# Altium schematic symbol library micro-harris.SCHLIB: 43 symbols
Pins are listed as number, name and electrical type; pins without a type are passive.

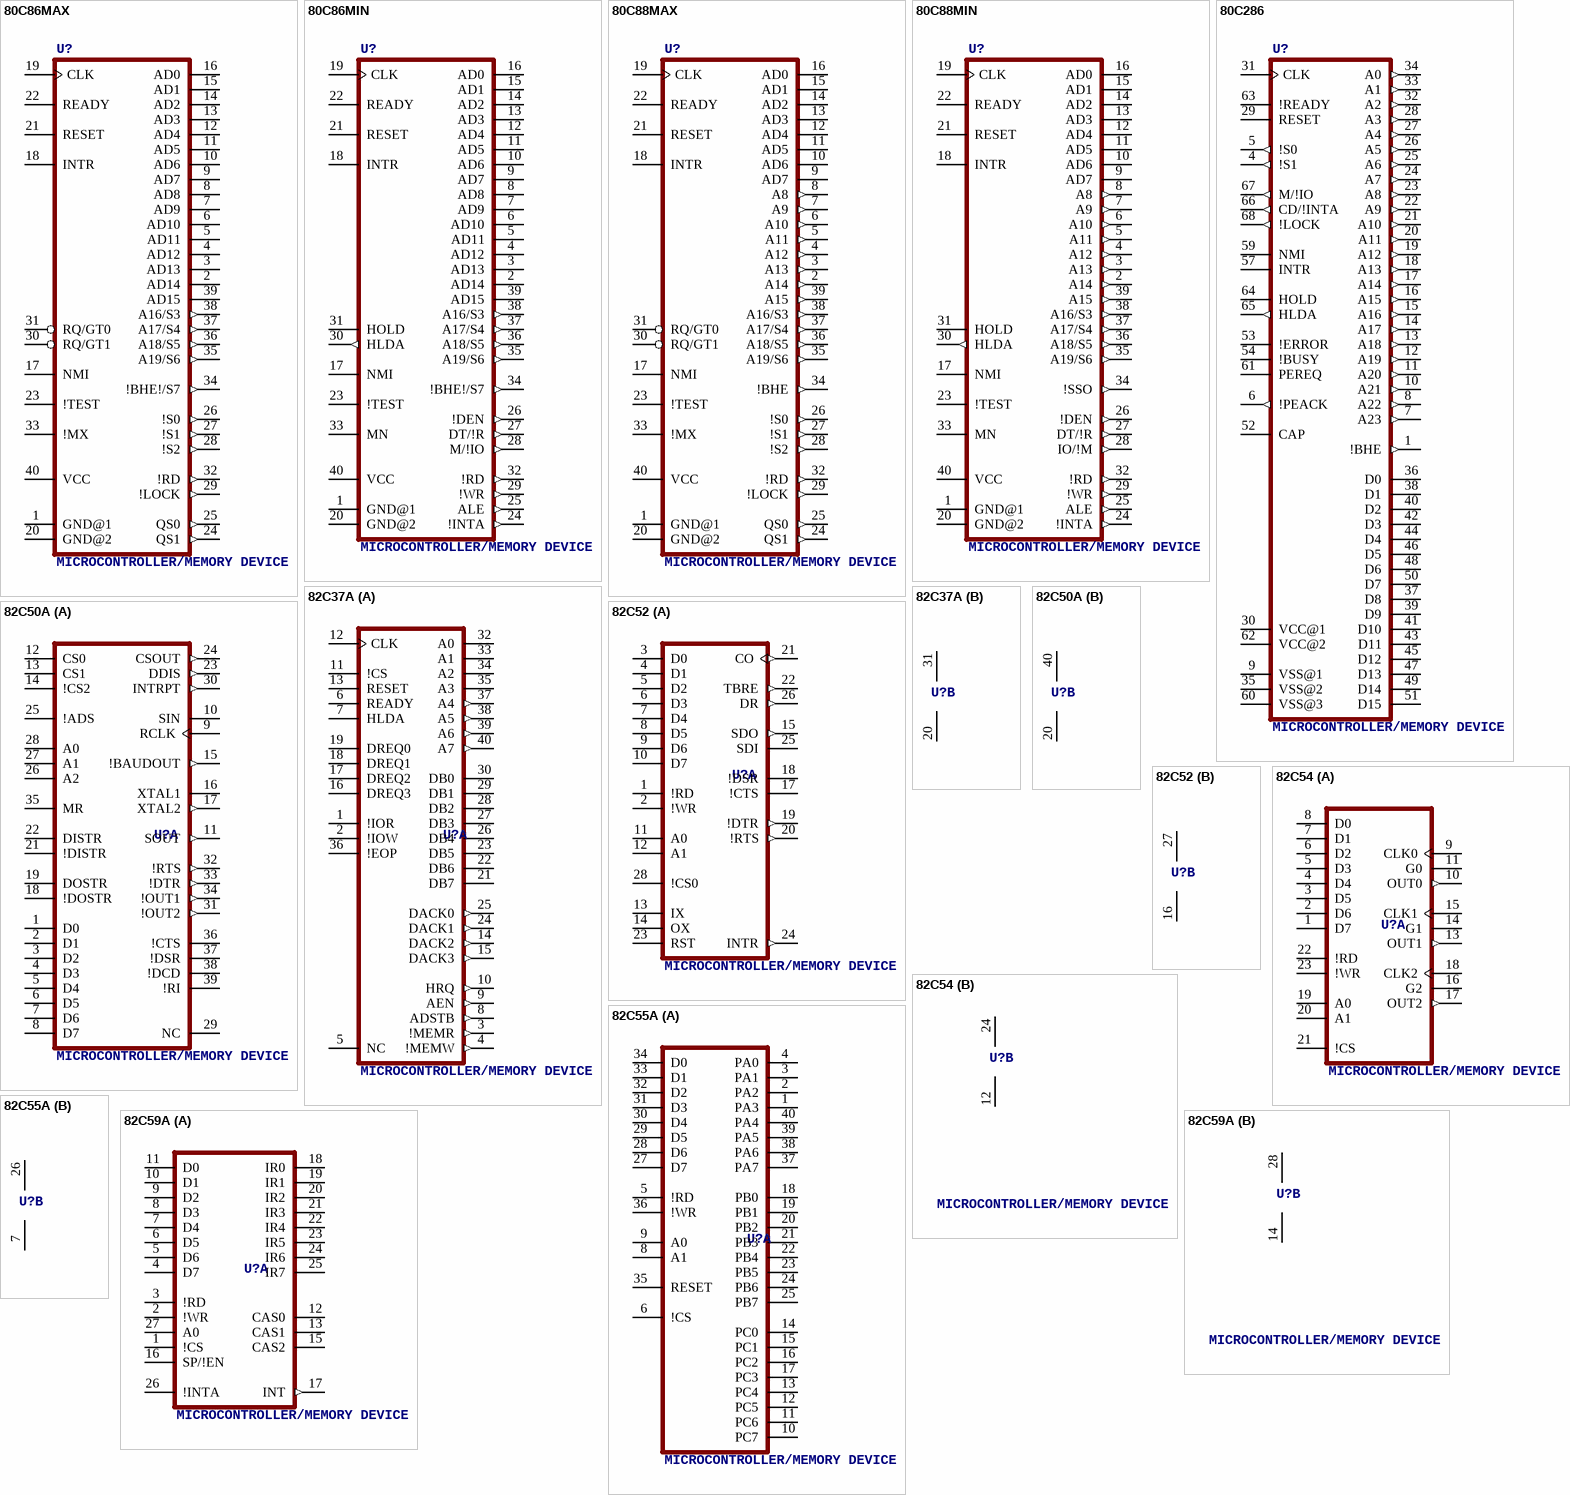
[diagram p0: symbols 80C86MAX to 82C59A]

## 80C86MAX
designator U?, comment MICROCONTROLLER/MEMORY DEVICE
MPN: CP80C86-2Z; OC_FARNELL: unknown; OC_NEWARK: 05M7145
footprint DIL40
pins: 1 GND@1 (power), 2 AD14, 3 AD13, 4 AD12, 5 AD11, 6 AD10, 7 AD9, 8 AD8, 9 AD7, 10 AD6, 11 AD5, 12 AD4, 13 AD3, 14 AD2, 15 AD1, 16 AD0, 17 NMI, 18 INTR, 19 CLK, 20 GND@2 (power), 21 RESET, 22 READY, 23 !TEST, 24 QS1 (out), 25 QS0 (out), 26 !S0 (out), 27 !S1 (out), 28 !S2 (out), 29 !LOCK (out), 30 RQ/GT1, 31 RQ/GT0, 32 !RD (out), 33 !MX, 34 !BHE!/S7 (out), 35 A19/S6 (out), 36 A18/S5 (out), 37 A17/S4 (out), 38 A16/S3 (out), 39 AD15, 40 VCC (power)

## 80C86MIN
designator U?, comment MICROCONTROLLER/MEMORY DEVICE
MPN: CP80C86-2; OC_FARNELL: unknown; OC_NEWARK: 16F4891
footprint DIL40
pins: 1 GND@1 (power), 2 AD14, 3 AD13, 4 AD12, 5 AD11, 6 AD10, 7 AD9, 8 AD8, 9 AD7, 10 AD6, 11 AD5, 12 AD4, 13 AD3, 14 AD2, 15 AD1, 16 AD0, 17 NMI, 18 INTR, 19 CLK, 20 GND@2 (power), 21 RESET, 22 READY, 23 !TEST, 24 !INTA (out), 25 ALE (out), 26 !DEN (out), 27 DT/!R (out), 28 M/!IO (out), 29 !WR (out), 30 HLDA (out), 31 HOLD, 32 !RD (out), 33 MN, 34 !BHE!/S7 (out), 35 A19/S6 (out), 36 A18/S5 (out), 37 A17/S4 (out), 38 A16/S3 (out), 39 AD15, 40 VCC (power)

## 80C88MAX
designator U?, comment MICROCONTROLLER/MEMORY DEVICE
MPN: IP80C88; MF: INTERSIL; OC_FARNELL: unknown; OC_NEWARK: 05B7353
footprint DIL40
pins: 1 GND@1 (power), 2 A14 (out), 3 A13 (out), 4 A12 (out), 5 A11 (out), 6 A10 (out), 7 A9 (out), 8 A8 (out), 9 AD7, 10 AD6, 11 AD5, 12 AD4, 13 AD3, 14 AD2, 15 AD1, 16 AD0, 17 NMI, 18 INTR, 19 CLK, 20 GND@2 (power), 21 RESET, 22 READY, 23 !TEST, 24 QS1 (out), 25 QS0 (out), 26 !S0 (out), 27 !S1 (out), 28 !S2 (out), 29 !LOCK (out), 30 RQ/GT1, 31 RQ/GT0, 32 !RD (out), 33 !MX, 34 !BHE (out), 35 A19/S6 (out), 36 A18/S5 (out), 37 A17/S4 (out), 38 A16/S3 (out), 39 A15 (out), 40 VCC (power)

## 80C88MIN
designator U?, comment MICROCONTROLLER/MEMORY DEVICE
MPN: IP80C88-2; MF: INTERSIL; OC_FARNELL: unknown; OC_NEWARK: 05B7354
footprint DIL40
pins: 1 GND@1 (power), 2 A14 (out), 3 A13 (out), 4 A12 (out), 5 A11 (out), 6 A10 (out), 7 A9 (out), 8 A8 (out), 9 AD7, 10 AD6, 11 AD5, 12 AD4, 13 AD3, 14 AD2, 15 AD1, 16 AD0, 17 NMI, 18 INTR, 19 CLK, 20 GND@2 (power), 21 RESET, 22 READY, 23 !TEST, 24 !INTA (out), 25 ALE (out), 26 !DEN (out), 27 DT/!R (out), 28 IO/!M (out), 29 !WR (out), 30 HLDA (out), 31 HOLD, 32 !RD (out), 33 MN, 34 !SSO (out), 35 A19/S6 (out), 36 A18/S5 (out), 37 A17/S4 (out), 38 A16/S3 (out), 39 A15 (out), 40 VCC (power)

## 80C286
designator U?, comment MICROCONTROLLER/MEMORY DEVICE
OC_FARNELL: unknown; OC_NEWARK: unknown
footprint INPGA68
pins: 1 !BHE (out), 4 !S1 (out), 5 !S0 (out), 6 !PEACK (out), 7 A23 (out), 8 A22 (out), 9 VSS@1 (power), 10 A21 (out), 11 A20 (out), 12 A19 (out), 13 A18 (out), 14 A17 (out), 15 A16 (out), 16 A15 (out), 17 A14 (out), 18 A13 (out), 19 A12 (out), 20 A11 (out), 21 A10 (out), 22 A9 (out), 23 A8 (out), 24 A7 (out), 25 A6 (out), 26 A5 (out), 27 A4 (out), 28 A3 (out), 29 RESET, 30 VCC@1 (power), 31 CLK, 32 A2 (out), 33 A1 (out), 34 A0 (out), 35 VSS@2 (power), 36 D0, 37 D8, 38 D1, 39 D9, 40 D2, 41 D10, 42 D3, 43 D11, 44 D4, 45 D12, 46 D5, 47 D13, 48 D6, 49 D14, 50 D7, 51 D15, 52 CAP, 53 !ERROR, 54 !BUSY, 57 INTR, 59 NMI, 60 VSS@3 (power), 61 PEREQ, 62 VCC@2 (power), 63 !READY, 64 HOLD, 65 HLDA (out), 66 CD/!INTA (out), 67 M/!IO (out), 68 !LOCK (out)

## 82C37A
designator U?, comment MICROCONTROLLER/MEMORY DEVICE
OC_FARNELL: unknown; OC_NEWARK: unknown
footprint DIL40
part A pins: 1 !IOR, 2 !IOW, 3 !MEMR (out), 4 !MEMW (out), 5 NC, 6 READY, 7 HLDA, 8 ADSTB (out), 9 AEN (out), 10 HRQ (out), 11 !CS, 12 CLK, 13 RESET, 14 DACK2 (out), 15 DACK3 (out), 16 DREQ3, 17 DREQ2, 18 DREQ1, 19 DREQ0, 21 DB7, 22 DB6, 23 DB5, 24 DACK1 (out), 25 DACK0 (out), 26 DB4, 27 DB3, 28 DB2, 29 DB1, 30 DB0, 32 A0, 33 A1, 34 A2, 35 A3, 36 !EOP, 37 A4 (out), 38 A5 (out), 39 A6 (out), 40 A7 (out)
part B pins: 20 GND (power), 31 VCC (power)

## 82C50A
designator U?, comment MICROCONTROLLER/MEMORY DEVICE
MPN: CP82C50A-5; OC_FARNELL: 527750; OC_NEWARK: 06F3286
footprint DIL40
part A pins: 1 D0, 2 D1, 3 D2, 4 D3, 5 D4, 6 D5, 7 D6, 8 D7, 9 RCLK, 10 SIN, 11 SOUT (out), 12 CS0, 13 CS1, 14 !CS2, 15 !BAUDOUT (out), 16 XTAL1, 17 XTAL2 (out), 18 !DOSTR, 19 DOSTR, 21 !DISTR, 22 DISTR, 23 DDIS (out), 24 CSOUT (out), 25 !ADS, 26 A2, 27 A1, 28 A0, 29 NC, 30 INTRPT (out), 31 !OUT2 (out), 32 !RTS (out), 33 !DTR (out), 34 !OUT1 (out), 35 MR, 36 !CTS, 37 !DSR, 38 !DCD, 39 !RI
part B pins: 20 GND (power), 40 VCC (power)

## 82C52
designator U?, comment MICROCONTROLLER/MEMORY DEVICE
MPN: IS82C52; MF: INTERSIL; OC_FARNELL: unknown; OC_NEWARK: 05B7416
footprint PLCC28
part A pins: 1 !RD, 2 !WR, 3 D0, 4 D1, 5 D2, 6 D3, 7 D4, 8 D5, 9 D6, 10 D7, 11 A0, 12 A1, 13 IX, 14 OX, 15 SDO (out), 17 !CTS, 18 !DSR, 19 !DTR (out), 20 !RTS (out), 21 CO (out), 22 TBRE (out), 23 RST, 24 INTR (out), 25 SDI, 26 DR (out), 28 !CS0
part B pins: 16 GND (power), 27 VCC (power)

## 82C54
designator U?, comment MICROCONTROLLER/MEMORY DEVICE
MPN: CP82C54Z; MF: INTERSIL; OC_FARNELL: 1018175; OC_NEWARK: 57K3037
footprint DIL24-6
part A pins: 1 D7, 2 D6, 3 D5, 4 D4, 5 D3, 6 D2, 7 D1, 8 D0, 9 CLK0, 10 OUT0 (out), 11 G0, 13 OUT1 (out), 14 G1, 15 CLK1, 16 G2, 17 OUT2 (out), 18 CLK2, 19 A0, 20 A1, 21 !CS, 22 !RD, 23 !WR
part B pins: 12 GND (power), 24 VCC (power)

## 82C55A
designator U?, comment MICROCONTROLLER/MEMORY DEVICE
MPN: CP82C55A-5; MF: INTERSIL; OC_FARNELL: 1018158; OC_NEWARK: 06F3290
footprint DIL40
part A pins: 1 PA3, 2 PA2, 3 PA1, 4 PA0, 5 !RD, 6 !CS, 8 A1, 9 A0, 10 PC7, 11 PC6, 12 PC5, 13 PC4, 14 PC0, 15 PC1, 16 PC2, 17 PC3, 18 PB0, 19 PB1, 20 PB2, 21 PB3, 22 PB4, 23 PB5, 24 PB6, 25 PB7, 27 D7, 28 D6, 29 D5, 30 D4, 31 D3, 32 D2, 33 D1, 34 D0, 35 RESET, 36 !WR, 37 PA7, 38 PA6, 39 PA5, 40 PA4
part B pins: 7 GND (power), 26 VCC (power)

## 82C59A
designator U?, comment MICROCONTROLLER/MEMORY DEVICE
MPN: IS82C59A; MF: INTERSIL; OC_FARNELL: unknown; OC_NEWARK: 05B7426
footprint PLCC28
part A pins: 1 !CS, 2 !WR, 3 !RD, 4 D7, 5 D6, 6 D5, 7 D4, 8 D3, 9 D2, 10 D1, 11 D0, 12 CAS0, 13 CAS1, 15 CAS2, 16 SP/!EN, 17 INT (out), 18 IR0, 19 IR1, 20 IR2, 21 IR3, 22 IR4, 23 IR5, 24 IR6, 25 IR7, 26 !INTA, 27 A0
part B pins: 14 GND (power), 28 VCC (power)

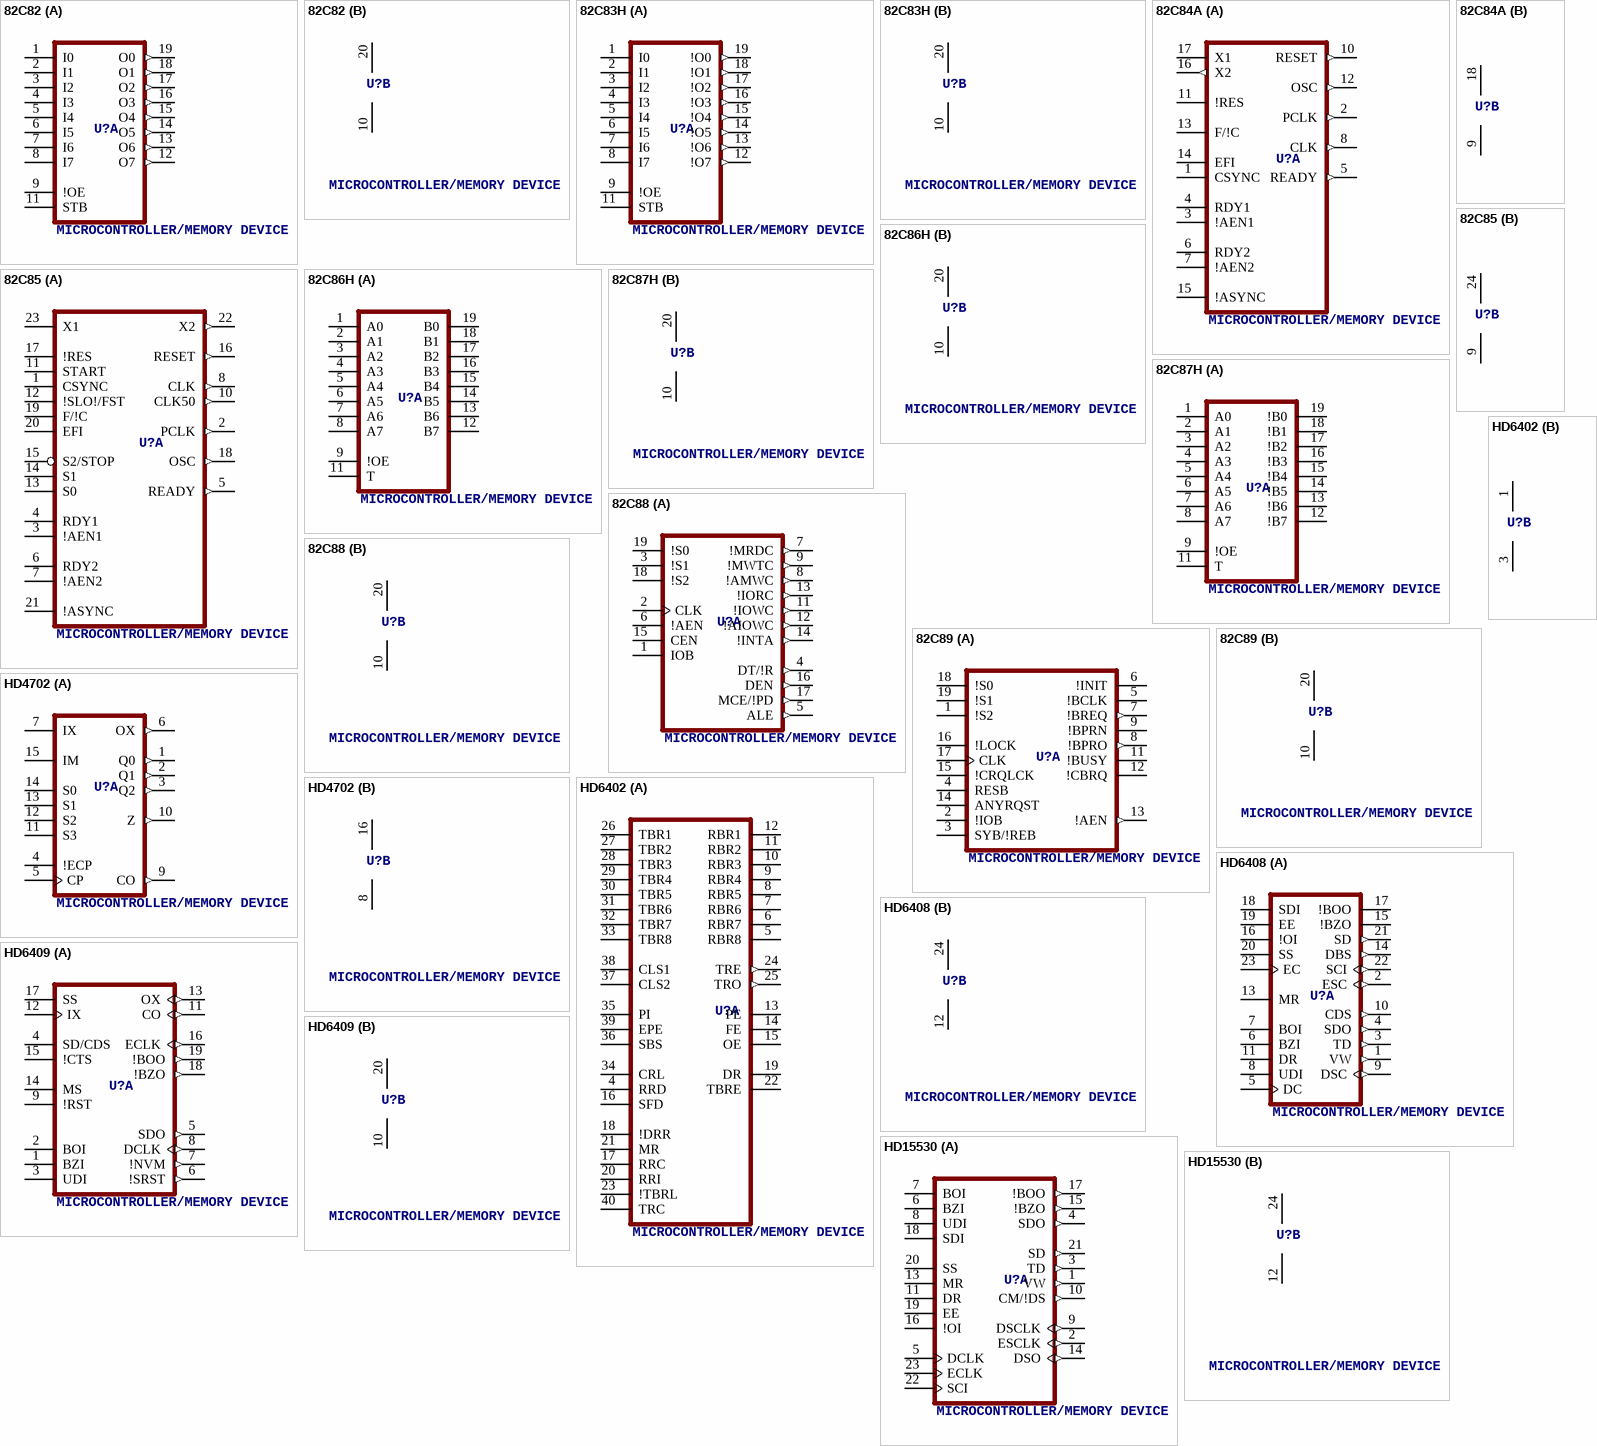
[diagram p1: symbols 82C82 to HD15530]

## 82C82
designator U?, comment MICROCONTROLLER/MEMORY DEVICE
MPN: ID82C82; MF: INTERSIL; OC_FARNELL: unknown; OC_NEWARK: 05B7334
footprint DIL20
part A pins: 1 I0, 2 I1, 3 I2, 4 I3, 5 I4, 6 I5, 7 I6, 8 I7, 9 !OE, 11 STB, 12 O7 (out), 13 O6 (out), 14 O5 (out), 15 O4 (out), 16 O3 (out), 17 O2 (out), 18 O1 (out), 19 O0 (out)
part B pins: 10 GND (power), 20 VCC (power)

## 82C83H
designator U?, comment MICROCONTROLLER/MEMORY DEVICE
OC_FARNELL: unknown; OC_NEWARK: unknown
footprint DIL20
part A pins: 1 I0, 2 I1, 3 I2, 4 I3, 5 I4, 6 I5, 7 I6, 8 I7, 9 !OE, 11 STB, 12 !O7 (out), 13 !O6 (out), 14 !O5 (out), 15 !O4 (out), 16 !O3 (out), 17 !O2 (out), 18 !O1 (out), 19 !O0 (out)
part B pins: 10 GND (power), 20 VCC (power)

## 82C84A
designator U?, comment MICROCONTROLLER/MEMORY DEVICE
MPN: CP82C84AZ; MF: INTERSIL; OC_FARNELL: 1216116; OC_NEWARK: 79K6037
footprint DIL18
part A pins: 1 CSYNC, 2 PCLK (out), 3 !AEN1, 4 RDY1, 5 READY (out), 6 RDY2, 7 !AEN2, 8 CLK (out), 10 RESET (out), 11 !RES, 12 OSC (out), 13 F/!C, 14 EFI, 15 !ASYNC, 16 X2 (out), 17 X1
part B pins: 9 GND (power), 18 VCC (power)

## 82C85
designator U?, comment MICROCONTROLLER/MEMORY DEVICE
OC_FARNELL: unknown; OC_NEWARK: unknown
footprint DIL24-3
part A pins: 1 CSYNC, 2 PCLK (out), 3 !AEN1, 4 RDY1, 5 READY (out), 6 RDY2, 7 !AEN2, 8 CLK (out), 10 CLK50 (out), 11 START, 12 !SLO!/FST, 13 S0, 14 S1, 15 S2/STOP, 16 RESET (out), 17 !RES, 18 OSC (out), 19 F/!C, 20 EFI, 21 !ASYNC, 22 X2 (out), 23 X1
part B pins: 9 GND (power), 24 VCC (power)

## 82C86H
designator U?, comment MICROCONTROLLER/MEMORY DEVICE
MPN: ID82C86H; MF: INTERSIL; OC_FARNELL: unknown; OC_NEWARK: 05B7338
footprint DIL20
part A pins: 1 A0, 2 A1, 3 A2, 4 A3, 5 A4, 6 A5, 7 A6, 8 A7, 9 !OE, 11 T, 12 B7, 13 B6, 14 B5, 15 B4, 16 B3, 17 B2, 18 B1, 19 B0
part B pins: 10 GND (power), 20 VCC (power)

## 82C87H
designator U?, comment MICROCONTROLLER/MEMORY DEVICE
OC_FARNELL: unknown; OC_NEWARK: unknown
footprint DIL20
part A pins: 1 A0, 2 A1, 3 A2, 4 A3, 5 A4, 6 A5, 7 A6, 8 A7, 9 !OE, 11 T, 12 !B7, 13 !B6, 14 !B5, 15 !B4, 16 !B3, 17 !B2, 18 !B1, 19 !B0
part B pins: 10 GND (power), 20 VCC (power)

## 82C88
designator U?, comment MICROCONTROLLER/MEMORY DEVICE
MPN: CP82C88; MF: INTERSIL; OC_FARNELL: unknown; OC_NEWARK: 06F3294
footprint DIL20
part A pins: 1 IOB, 2 CLK, 3 !S1, 4 DT/!R (out), 5 ALE (out), 6 !AEN, 7 !MRDC (out), 8 !AMWC (out), 9 !MWTC (out), 11 !IOWC (out), 12 !AIOWC (out), 13 !IORC (out), 14 !INTA (out), 15 CEN, 16 DEN (out), 17 MCE/!PD (out), 18 !S2, 19 !S0
part B pins: 10 GND (power), 20 VCC (power)

## 82C89
designator U?, comment MICROCONTROLLER/MEMORY DEVICE
MPN: CP82C89; MF: INTERSIL; OC_FARNELL: unknown; OC_NEWARK: 16F4897
footprint DIL20
part A pins: 1 !S2, 2 !IOB, 3 SYB/!REB, 4 RESB, 5 !BCLK, 6 !INIT, 7 !BREQ (out), 8 !BPRO (out), 9 !BPRN, 11 !BUSY, 12 !CBRQ, 13 !AEN (out), 14 ANYRQST, 15 !CRQLCK, 16 !LOCK, 17 CLK, 18 !S0, 19 !S1
part B pins: 10 GND (power), 20 VCC (power)

## HD4702
designator U?, comment MICROCONTROLLER/MEMORY DEVICE
OC_FARNELL: unknown; OC_NEWARK: unknown
footprint DIL16
part A pins: 1 Q0 (out), 2 Q1 (out), 3 Q2 (out), 4 !ECP, 5 CP, 6 OX (out), 7 IX, 9 CO (out), 10 Z (out), 11 S3, 12 S2, 13 S1, 14 S0, 15 IM
part B pins: 8 GND (power), 16 VCC (power)

## HD6402
designator U?, comment MICROCONTROLLER/MEMORY DEVICE
OC_FARNELL: unknown; OC_NEWARK: unknown
footprint DIL40
part A pins: 4 RRD, 5 RBR8 (hiz), 6 RBR7 (hiz), 7 RBR6 (hiz), 8 RBR5 (hiz), 9 RBR4 (hiz), 10 RBR3 (hiz), 11 RBR2 (hiz), 12 RBR1 (hiz), 13 PE (hiz), 14 FE (hiz), 15 OE (hiz), 16 SFD, 17 RRC, 18 !DRR, 19 DR (hiz), 20 RRI, 21 MR, 22 TBRE (hiz), 23 !TBRL, 24 TRE (out), 25 TRO (out), 26 TBR1, 27 TBR2, 28 TBR3, 29 TBR4, 30 TBR5, 31 TBR6, 32 TBR7, 33 TBR8, 34 CRL, 35 PI, 36 SBS, 37 CLS2, 38 CLS1, 39 EPE, 40 TRC
part B pins: 1 VCC (power), 3 GND (power)

## HD6408
designator U?, comment MICROCONTROLLER/MEMORY DEVICE
OC_FARNELL: unknown; OC_NEWARK: unknown
footprint DIL24-6
part A pins: 1 VW (out), 2 ESC (out), 3 TD (out), 4 SDO (out), 5 DC, 6 BZI, 7 BOI, 8 UDI, 9 DSC (out), 10 CDS (out), 11 DR, 13 MR, 14 DBS (out), 15 !BZO (hiz), 16 !OI, 17 !BOO (hiz), 18 SDI, 19 EE, 20 SS, 21 SD (out), 22 SCI (out), 23 EC
part B pins: 12 GND (power), 24 VCC (power)

## HD6409
designator U?, comment MICROCONTROLLER/MEMORY DEVICE
OC_FARNELL: unknown; OC_NEWARK: unknown
footprint DIL20
part A pins: 1 BZI, 2 BOI, 3 UDI, 4 SD/CDS, 5 SDO (out), 6 !SRST (out), 7 !NVM (out), 8 DCLK (out), 9 !RST, 11 CO (out), 12 IX, 13 OX (out), 14 MS, 15 !CTS, 16 ECLK (out), 17 SS, 18 !BZO (out), 19 !BOO (out)
part B pins: 10 GND (power), 20 VCC (power)

## HD15530
designator U?, comment MICROCONTROLLER/MEMORY DEVICE
OC_FARNELL: unknown; OC_NEWARK: unknown
footprint DIL24-6
part A pins: 1 VW (out), 2 ESCLK (out), 3 TD (out), 4 SDO (out), 5 DCLK, 6 BZI, 7 BOI, 8 UDI, 9 DSCLK (out), 10 CM/!DS (out), 11 DR, 13 MR, 14 DSO (out), 15 !BZO (out), 16 !OI, 17 !BOO (out), 18 SDI, 19 EE, 20 SS, 21 SD (out), 22 SCI, 23 ECLK
part B pins: 12 GND (power), 24 VCC (power)

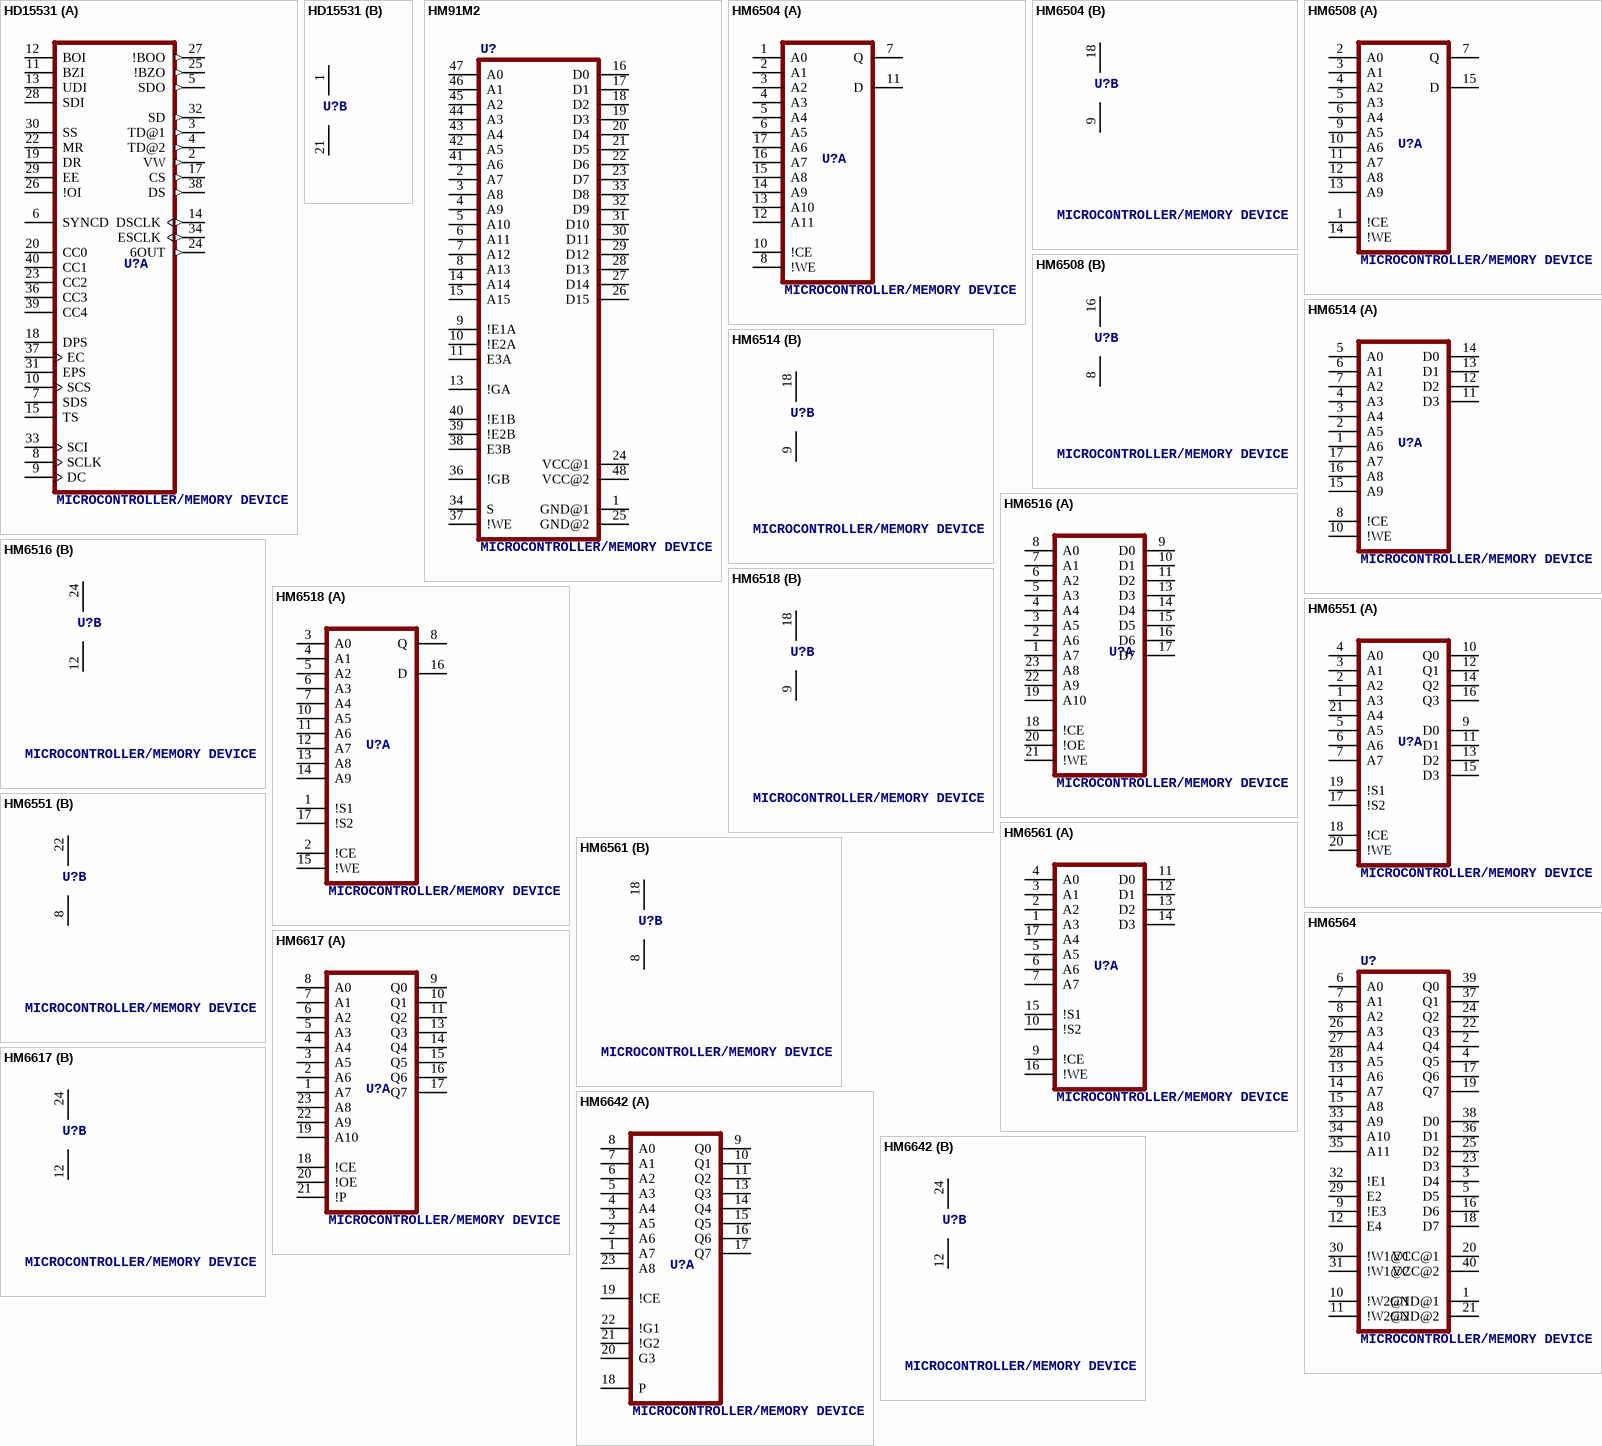
[diagram p2: symbols HD15531 to HM6642]

## HD15531
designator U?, comment MICROCONTROLLER/MEMORY DEVICE
OC_FARNELL: unknown; OC_NEWARK: unknown
footprint DIL40
part A pins: 2 VW (out), 3 TD@1 (out), 4 TD@2 (out), 5 SDO (out), 6 SYNCD, 7 SDS, 8 SCLK, 9 DC, 10 SCS, 11 BZI, 12 BOI, 13 UDI, 14 DSCLK (out), 15 TS, 17 CS (out), 18 DPS, 19 DR, 20 CC0, 22 MR, 23 CC2, 24 6OUT (out), 25 !BZO (out), 26 !OI, 27 !BOO (out), 28 SDI, 29 EE, 30 SS, 31 EPS, 32 SD (out), 33 SCI, 34 ESCLK (out), 36 CC3, 37 EC, 38 DS (out), 39 CC4, 40 CC1
part B pins: 1 VCC (power), 21 GND (power)

## HM91M2
designator U?, comment MICROCONTROLLER/MEMORY DEVICE
OC_FARNELL: unknown; OC_NEWARK: unknown
footprint DIL48
pins: 1 GND@1 (power), 2 A7, 3 A8, 4 A9, 5 A10, 6 A11, 7 A12, 8 A13, 9 !E1A, 10 !E2A, 11 E3A, 13 !GA, 14 A14, 15 A15, 16 D0, 17 D1, 18 D2, 19 D3, 20 D4, 21 D5, 22 D6, 23 D7, 24 VCC@1 (power), 25 GND@2 (power), 26 D15, 27 D14, 28 D13, 29 D12, 30 D11, 31 D10, 32 D9, 33 D8, 34 S, 36 !GB, 37 !WE, 38 E3B, 39 !E2B, 40 !E1B, 41 A6, 42 A5, 43 A4, 44 A3, 45 A2, 46 A1, 47 A0, 48 VCC@2 (power)

## HM6504
designator U?, comment MICROCONTROLLER/MEMORY DEVICE
OC_FARNELL: unknown; OC_NEWARK: unknown
footprint DIL18
part A pins: 1 A0, 2 A1, 3 A2, 4 A3, 5 A4, 6 A5, 7 Q (hiz), 8 !WE, 10 !CE, 11 D, 12 A11, 13 A10, 14 A9, 15 A8, 16 A7, 17 A6
part B pins: 9 GND (power), 18 VCC (power)

## HM6508
designator U?, comment MICROCONTROLLER/MEMORY DEVICE
OC_FARNELL: unknown; OC_NEWARK: unknown
footprint DIL16
part A pins: 1 !CE, 2 A0, 3 A1, 4 A2, 5 A3, 6 A4, 7 Q (hiz), 9 A5, 10 A6, 11 A7, 12 A8, 13 A9, 14 !WE, 15 D
part B pins: 8 GND (power), 16 VCC (power)

## HM6514
designator U?, comment MICROCONTROLLER/MEMORY DEVICE
OC_FARNELL: unknown; OC_NEWARK: unknown
footprint DIL18
part A pins: 1 A6, 2 A5, 3 A4, 4 A3, 5 A0, 6 A1, 7 A2, 8 !CE, 10 !WE, 11 D3, 12 D2, 13 D1, 14 D0, 15 A9, 16 A8, 17 A7
part B pins: 9 GND (power), 18 VCC (power)

## HM6516
designator U?, comment MICROCONTROLLER/MEMORY DEVICE
OC_FARNELL: unknown; OC_NEWARK: unknown
footprint DIL24-6
part A pins: 1 A7, 2 A6, 3 A5, 4 A4, 5 A3, 6 A2, 7 A1, 8 A0, 9 D0, 10 D1, 11 D2, 13 D3, 14 D4, 15 D5, 16 D6, 17 D7, 18 !CE, 19 A10, 20 !OE, 21 !WE, 22 A9, 23 A8
part B pins: 12 GND (power), 24 VCC (power)

## HM6518
designator U?, comment MICROCONTROLLER/MEMORY DEVICE
OC_FARNELL: unknown; OC_NEWARK: unknown
footprint DIL18
part A pins: 1 !S1, 2 !CE, 3 A0, 4 A1, 5 A2, 6 A3, 7 A4, 8 Q (hiz), 10 A5, 11 A6, 12 A7, 13 A8, 14 A9, 15 !WE, 16 D, 17 !S2
part B pins: 9 GND (power), 18 VCC (power)

## HM6551
designator U?, comment MICROCONTROLLER/MEMORY DEVICE
OC_FARNELL: unknown; OC_NEWARK: unknown
footprint DIL22-3
part A pins: 1 A3, 2 A2, 3 A1, 4 A0, 5 A5, 6 A6, 7 A7, 9 D0, 10 Q0 (hiz), 11 D1, 12 Q1 (hiz), 13 D2, 14 Q2 (hiz), 15 D3, 16 Q3 (hiz), 17 !S2, 18 !CE, 19 !S1, 20 !WE, 21 A4
part B pins: 8 GND (power), 22 VCC (power)

## HM6561
designator U?, comment MICROCONTROLLER/MEMORY DEVICE
OC_FARNELL: unknown; OC_NEWARK: unknown
footprint DIL18
part A pins: 1 A3, 2 A2, 3 A1, 4 A0, 5 A5, 6 A6, 7 A7, 9 !CE, 10 !S2, 11 D0, 12 D1, 13 D2, 14 D3, 15 !S1, 16 !WE, 17 A4
part B pins: 8 GND (power), 18 VCC (power)

## HM6564
designator U?, comment MICROCONTROLLER/MEMORY DEVICE
OC_FARNELL: unknown; OC_NEWARK: unknown
footprint DIL40
pins: 1 GND@1 (power), 2 Q4 (hiz), 3 D4, 4 Q5 (hiz), 5 D5, 6 A0, 7 A1, 8 A2, 9 !E3, 10 !W2@1, 11 !W2@2, 12 E4, 13 A6, 14 A7, 15 A8, 16 D6, 17 Q6 (hiz), 18 D7, 19 Q7 (hiz), 20 VCC@1 (power), 21 GND@2 (power), 22 Q3 (hiz), 23 D3, 24 Q2 (hiz), 25 D2, 26 A3, 27 A4, 28 A5, 29 E2, 30 !W1@1, 31 !W1@2, 32 !E1, 33 A9, 34 A10, 35 A11, 36 D1, 37 Q1 (hiz), 38 D0, 39 Q0 (hiz), 40 VCC@2 (power)

## HM6617
designator U?, comment MICROCONTROLLER/MEMORY DEVICE
OC_FARNELL: unknown; OC_NEWARK: unknown
footprint DIL24-3
part A pins: 1 A7, 2 A6, 3 A5, 4 A4, 5 A3, 6 A2, 7 A1, 8 A0, 9 Q0 (hiz), 10 Q1 (hiz), 11 Q2 (hiz), 13 Q3 (hiz), 14 Q4 (hiz), 15 Q5 (hiz), 16 Q6 (hiz), 17 Q7 (hiz), 18 !CE, 19 A10, 20 !OE, 21 !P, 22 A9, 23 A8
part B pins: 12 GND (power), 24 VCC (power)

## HM6642
designator U?, comment MICROCONTROLLER/MEMORY DEVICE
OC_FARNELL: unknown; OC_NEWARK: unknown
footprint DIL24-3
part A pins: 1 A7, 2 A6, 3 A5, 4 A4, 5 A3, 6 A2, 7 A1, 8 A0, 9 Q0 (hiz), 10 Q1 (hiz), 11 Q2 (hiz), 13 Q3 (hiz), 14 Q4 (hiz), 15 Q5 (hiz), 16 Q6 (hiz), 17 Q7 (hiz), 18 P, 19 !CE, 20 G3, 21 !G2, 22 !G1, 23 A8
part B pins: 12 GND (power), 24 VCC (power)

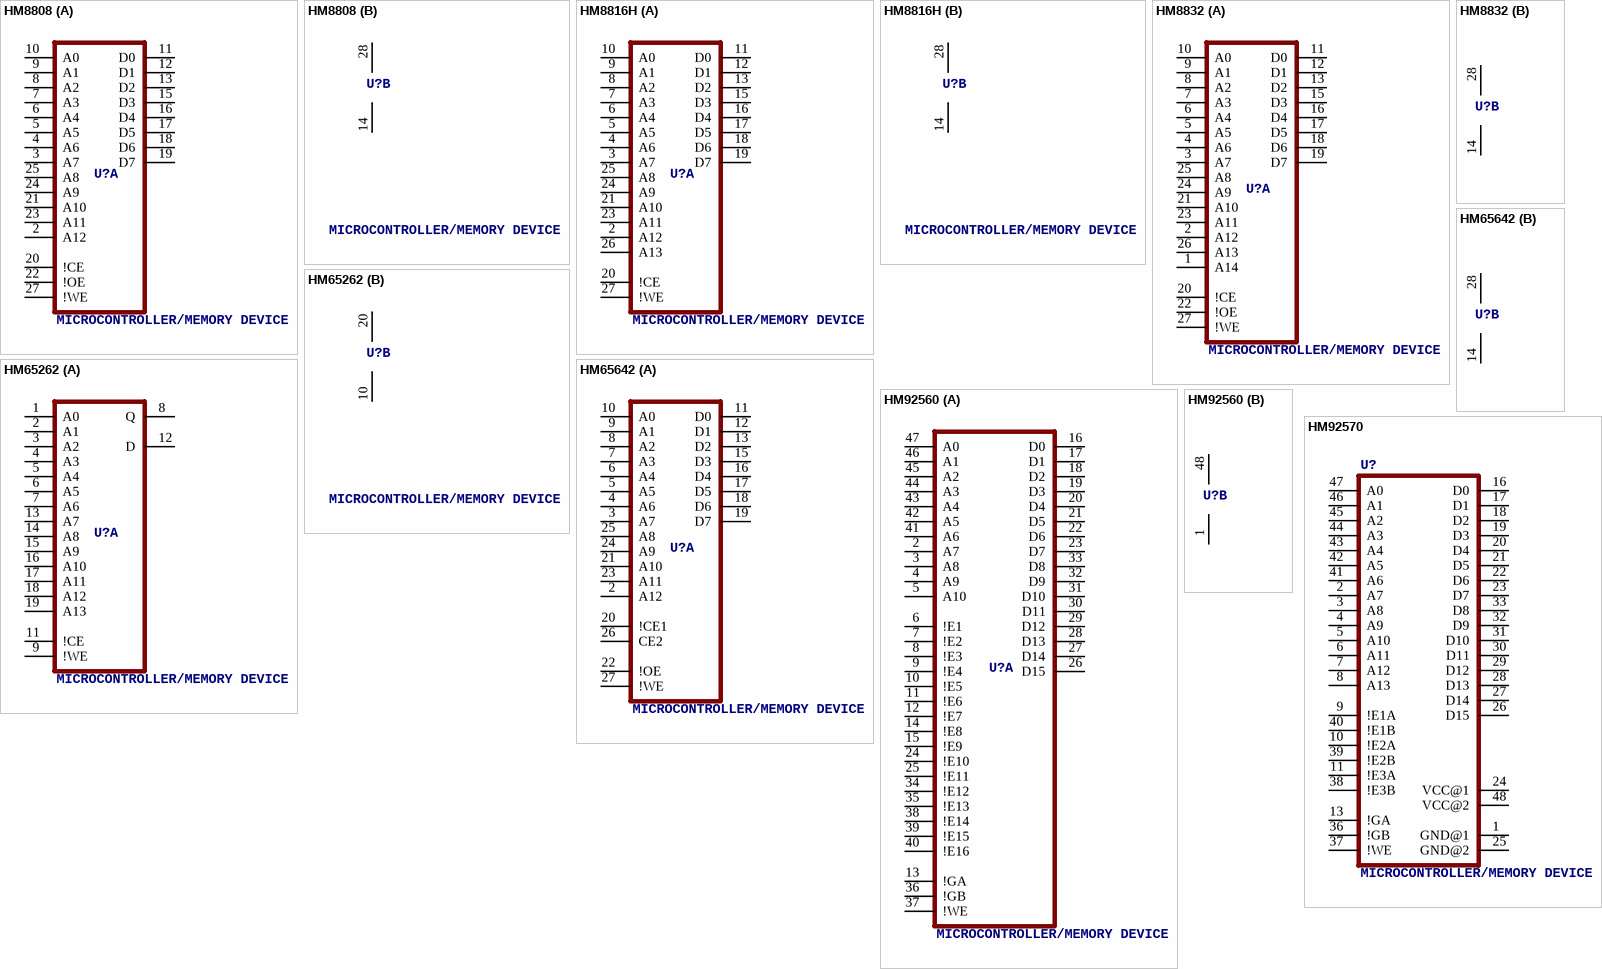
[diagram p3: symbols HM8808 to HM92570]

## HM8808
designator U?, comment MICROCONTROLLER/MEMORY DEVICE
OC_FARNELL: unknown; OC_NEWARK: unknown
footprint DIL28-6
part A pins: 2 A12, 3 A7, 4 A6, 5 A5, 6 A4, 7 A3, 8 A2, 9 A1, 10 A0, 11 D0, 12 D1, 13 D2, 15 D3, 16 D4, 17 D5, 18 D6, 19 D7, 20 !CE, 21 A10, 22 !OE, 23 A11, 24 A9, 25 A8, 27 !WE
part B pins: 14 GND (power), 28 VCC (power)

## HM8816H
designator U?, comment MICROCONTROLLER/MEMORY DEVICE
OC_FARNELL: unknown; OC_NEWARK: unknown
footprint DIL28-6
part A pins: 2 A12, 3 A7, 4 A6, 5 A5, 6 A4, 7 A3, 8 A2, 9 A1, 10 A0, 11 D0, 12 D1, 13 D2, 15 D3, 16 D4, 17 D5, 18 D6, 19 D7, 20 !CE, 21 A10, 23 A11, 24 A9, 25 A8, 26 A13, 27 !WE
part B pins: 14 GND (power), 28 VCC (power)

## HM8832
designator U?, comment MICROCONTROLLER/MEMORY DEVICE
OC_FARNELL: unknown; OC_NEWARK: unknown
footprint DIL28-6
part A pins: 1 A14, 2 A12, 3 A7, 4 A6, 5 A5, 6 A4, 7 A3, 8 A2, 9 A1, 10 A0, 11 D0, 12 D1, 13 D2, 15 D3, 16 D4, 17 D5, 18 D6, 19 D7, 20 !CE, 21 A10, 22 !OE, 23 A11, 24 A9, 25 A8, 26 A13, 27 !WE
part B pins: 14 GND (power), 28 VCC (power)

## HM65262
designator U?, comment MICROCONTROLLER/MEMORY DEVICE
OC_FARNELL: unknown; OC_NEWARK: unknown
footprint DIL20
part A pins: 1 A0, 2 A1, 3 A2, 4 A3, 5 A4, 6 A5, 7 A6, 8 Q (hiz), 9 !WE, 11 !CE, 12 D, 13 A7, 14 A8, 15 A9, 16 A10, 17 A11, 18 A12, 19 A13
part B pins: 10 GND (power), 20 VCC (power)

## HM65642
designator U?, comment MICROCONTROLLER/MEMORY DEVICE
OC_FARNELL: unknown; OC_NEWARK: unknown
footprint DIL28-6
part A pins: 2 A12, 3 A7, 4 A6, 5 A5, 6 A4, 7 A3, 8 A2, 9 A1, 10 A0, 11 D0, 12 D1, 13 D2, 15 D3, 16 D4, 17 D5, 18 D6, 19 D7, 20 !CE1, 21 A10, 22 !OE, 23 A11, 24 A9, 25 A8, 26 CE2, 27 !WE
part B pins: 14 GND (power), 28 VCC (power)

## HM92560
designator U?, comment MICROCONTROLLER/MEMORY DEVICE
OC_FARNELL: unknown; OC_NEWARK: unknown
footprint DIL48
part A pins: 2 A7, 3 A8, 4 A9, 5 A10, 6 !E1, 7 !E2, 8 !E3, 9 !E4, 10 !E5, 11 !E6, 12 !E7, 13 !GA, 14 !E8, 15 !E9, 16 D0, 17 D1, 18 D2, 19 D3, 20 D4, 21 D5, 22 D6, 23 D7, 24 !E10, 25 !E11, 26 D15, 27 D14, 28 D13, 29 D12, 30 D11, 31 D10, 32 D9, 33 D8, 34 !E12, 35 !E13, 36 !GB, 37 !WE, 38 !E14, 39 !E15, 40 !E16, 41 A6, 42 A5, 43 A4, 44 A3, 45 A2, 46 A1, 47 A0
part B pins: 1 GND (power), 48 VCC (power)

## HM92570
designator U?, comment MICROCONTROLLER/MEMORY DEVICE
OC_FARNELL: unknown; OC_NEWARK: unknown
footprint DIL48
pins: 1 GND@1 (power), 2 A7, 3 A8, 4 A9, 5 A10, 6 A11, 7 A12, 8 A13, 9 !E1A, 10 !E2A, 11 !E3A, 13 !GA, 16 D0, 17 D1, 18 D2, 19 D3, 20 D4, 21 D5, 22 D6, 23 D7, 24 VCC@1 (power), 25 GND@2 (power), 26 D15, 27 D14, 28 D13, 29 D12, 30 D11, 31 D10, 32 D9, 33 D8, 36 !GB, 37 !WE, 38 !E3B, 39 !E2B, 40 !E1B, 41 A6, 42 A5, 43 A4, 44 A3, 45 A2, 46 A1, 47 A0, 48 VCC@2 (power)